# Altium schematic symbol library Fuse_Components.SchLib: 1 symbol
Pins are listed as number, name and electrical type; pins without a type are passive.

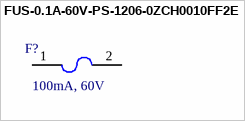
[diagram p0: symbol FUS-0.1A-60V-PS-1206-0ZCH0010FF2E]

## FUS-0.1A-60V-PS-1206-0ZCH0010FF2E
designator F?  value 100mA, 60V  (hidden comment: FUS-0.1A-60V-PS-1206-0ZCH0010FF2E)
Fuse, PTC, 100mA, 60V, 1206; MFG: Bel Fuse Inc.; MFGPN: 0ZCH0010FF2E; Notes: *; Checked: *; Populate: *
footprint 1206_F (Chip Fuse, 2-Leads, Body 3.20x1.65mm, IPC Medium Density)
pins: 1, 2